# Altium integrated library Capacitor.IntLib: 7 symbols
Pins are listed as number, name and electrical type; pins without a type are passive.

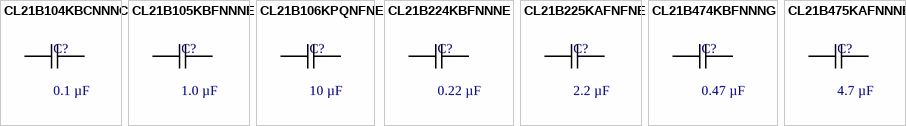
[diagram p0: symbols CL21B104KBCNNNC to CL21B475KAFNNNE]

## CL21B104KBCNNNC
designator C?, comment 0.1 µF
0.1 µF ±10% 50V Ceramic Capacitor X7R 0805 (2012 Metric); Manufacturer 1: Samsung Electro-Mechanics; Manufacturer Part Number 1: CL21B104KBCNNNC; Supplier 1: Digi-Key; Supplier Part Number 1: 1276-1003-1-ND; Capacitance: 0.1 µF; Voltage: 50 V; Tolerance: 10%; Temperature Coefficient: X7R
footprint CAPC0805_M2012X14N (Chip Capacitor, 2-Leads, Body 2.00x1.25mm, IPC Medium Density)
pins: 1, 2

## CL21B105KBFNNNE
designator C?, comment 1.0 µF
1.0 µF ±10% 50V Ceramic Capacitor X7R 0805 (2012 Metric); Manufacturer 1: Samsung Electro-Mechanics; Manufacturer Part Number 1: CL21B105KBFNNNE; Supplier 1: Digi-Key; Supplier Part Number 1: 1276-1029-1-ND; Capacitance: 1.0 µF; Voltage: 50 V; Tolerance: 10%; Temperature Coefficient: X7R
footprint CAPC0805_M2012X14N (Chip Capacitor, 2-Leads, Body 2.00x1.25mm, IPC Medium Density)
pins: 1, 2

## CL21B106KPQNFNE
designator C?, comment 10 µF
10 µF ±10% 10V Ceramic Capacitor X7R 0805 (2012 Metric); Manufacturer 1: Samsung Electro-Mechanics; Manufacturer Part Number 1: CL21B106KPQNFNE; Supplier 1: Digi-Key; Supplier Part Number 1: 1276-2934-1-ND; Capacitance: 10 µF; Voltage: 10 V; Tolerance: 10%; Temperature Coefficient: X7R
footprint CAPC0805_M2012X14N (Chip Capacitor, 2-Leads, Body 2.00x1.25mm, IPC Medium Density)
pins: 1, 2

## CL21B224KBFNNNE
designator C?, comment 0.22 µF
0.22 µF ±10% 50V Ceramic Capacitor X7R 0805 (2012 Metric); Manufacturer 1: Samsung Electro-Mechanics; Manufacturer Part Number 1: CL21B224KBFNNNE; Supplier 1: Digi-Key; Supplier Part Number 1: 1276-1093-1-ND; Capacitance: 0.22 µF; Voltage: 50 V; Tolerance: 10%; Temperature Coefficient: X7R
footprint CAPC0805_M2012X14N (Chip Capacitor, 2-Leads, Body 2.00x1.25mm, IPC Medium Density)
pins: 1, 2

## CL21B225KAFNFNE
designator C?, comment 2.2 µF
2.2 µF ±10% 25V Ceramic Capacitor X7R 0805 (2012 Metric); Manufacturer 1: Samsung Electro-Mechanics; Manufacturer Part Number 1: CL21B225KAFNFNE; Supplier 1: Digi-Key; Supplier Part Number 1: 1276-2953-1-ND; Capacitance: 2.2 µF; Voltage: 25 V; Tolerance: 10%; Temperature Coefficient: X7R
footprint CAPC0805_M2012X14N (Chip Capacitor, 2-Leads, Body 2.00x1.25mm, IPC Medium Density)
pins: 1, 2

## CL21B474KBFNNNG
designator C?, comment 0.47 µF
0.47 µF ±10% 50V Ceramic Capacitor X7R 0805 (2012 Metric); Manufacturer 1: Samsung Electro-Mechanics; Manufacturer Part Number 1: CL21B474KBFNNNG; Supplier 1: Digi-Key; Supplier Part Number 1: 1276-6482-1-ND; Capacitance: 0.47 µF; Voltage: 50 V; Tolerance: 10%; Temperature Coefficient: X7R
footprint CAPC0805_M2012X14N (Chip Capacitor, 2-Leads, Body 2.00x1.25mm, IPC Medium Density)
pins: 1, 2

## CL21B475KAFNNNE
designator C?, comment 4.7 µF
4.7 µF ±10% 25V Ceramic Capacitor X7R 0805 (2012 Metric); Manufacturer 1: Samsung Electro-Mechanics; Manufacturer Part Number 1: CL21B475KAFNNNE; Supplier 1: Digi-Key; Supplier Part Number 1: 1276-2969-1-ND; Capacitance: 4.7 µF; Voltage: 25 V; Tolerance: 10%; Temperature Coefficient: X7R
footprint CAPC0805_M2012X14N (Chip Capacitor, 2-Leads, Body 2.00x1.25mm, IPC Medium Density)
pins: 1, 2